# Altium schematic symbol library BuckConv.SchLib: 1 symbol
Pins are listed as number, name and electrical type; pins without a type are passive.

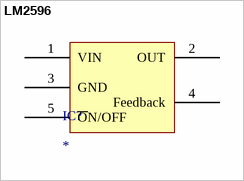
[diagram p0: symbol LM2596]

## LM2596
designator IC?
footprint D2PAK
pins: 1 VIN, 2 OUT, 3 GND, 4 Feedback, 5 ~{O}N/OFF